# Altium footprint library Transformer.PcbLib: 20 footprints (part 2 of 2)
Each footprint in its own frame and in the unit in brackets; x right, y up, seen from the top. Pads: shape width x height; smd on the part's side, far side on the other; paste and mask are expansions set on the pad; w line width, h text height; cw(c..) or ccw(c..) is an arc to the next point about the centre after c.
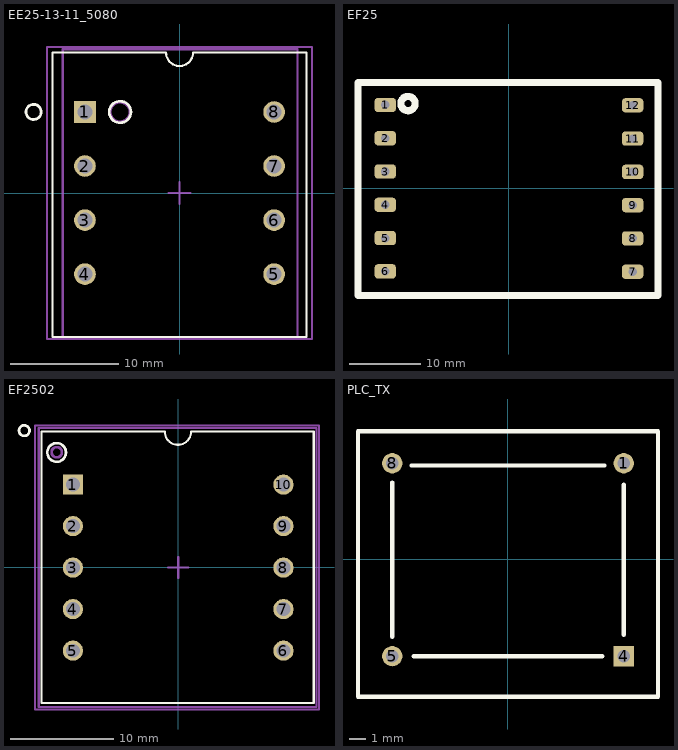
[diagram p1: the footprints below, top view; thin cyan lines are the x and y axes]

## EE25-13-11_5080 [mm] "THT, Body 26.00x23.50mm, 8Pins, Pitch 5.00mm"
height 29.5
pads (8):
  rect 2x2 hole 1.4: 1(-8.75,7.5)
  round 2 hole 1.4: 2(-8.75,2.5) 3(-8.75,-2.5) 4(-8.75,-7.5) 5(8.75,-7.5) 6(8.75,-2.5) 7(8.75,2.5) 8(8.75,7.5)
Top Overlay:
  circle w0.254: c-5.5,7.5 r1
  lines w0.2: -1.3,13 -11.75,13 -11.75,-13.3 11.75,-13.3 11.75,13 1.3,13 ; -1.25,13 ccw(c0,13) 1.25,13
  lines w0.254: -12.808,7.606 ccw(c-13.5,7.5) -12.8,7.5
Mechanical 13:
  circle w0.254: c-5.5,7.5 r0.906
  lines w0.2: -10.8,-13.3 10.9,-13.3 10.9,13.3 -10.8,13.3 -10.8,-13.3
Mechanical 15:
  lines w0.2: -1,0 1,0 ; 0,-1 0,1 ; -12.25,-13.5 -12.25,13.5 12.25,13.5 12.25,-13.5 -12.25,-13.5
  text ".Designator" at 0,0 h0.5
3D body "EE25-13-11_5080.step": height 29.23, standoff -3.5, extent -10.57,-13.003 10.57,13

## EF25 [mm]
pads (12):
  rrect50% 3x2 hole 1.2: 1(-17.272,11.615) 2(-17.272,6.965) 3(-17.272,2.315) 4(-17.272,-2.335) 5(-17.272,-6.985) 6(-17.272,-11.635) 7(17.272,-11.684) 8(17.272,-7.034) 9(17.272,-2.384) 10(17.272,2.266) 11(17.272,6.916) 12(17.272,11.566)
Top Overlay:
  circle w1: c-14.097,11.811 r1
  lines w1: -21.082,-14.986 20.828,-14.986 20.828,14.732 -21.082,14.732 -21.082,-14.986

## EF2502 [mm] "THT, Body 29.21x27.94mm, 10Pins, Pitch 5.08mm"
height 21.59
pads (10):
  rect 1.95x1.95 hole 1.32: 1(-10.16,8.001)
  round 1.95 hole 1.32: 2(-10.16,3.994) 3(-10.16,-0.013) 4(-10.16,-4.02) 5(-10.16,-8.026) 6(10.16,-8.026) 7(10.16,-4.02) 8(10.16,-0.013) 9(10.16,3.994) 10(10.16,8.001)
Top Overlay:
  circle w0.254: c-11.735,11.1 r0.901
  circle w0.254: c-14.859,13.208 r0.51
  lines w0.2: 1.24,13.111 cw(c-0.03,13.111) -1.3,13.111 -13.208,13.111 -13.208,-13.081 13.081,-13.081 13.081,13.111 1.3,13.111
Mechanical 13:
  circle w0.254: c-11.726,11.12 r0.5
  lines w0.2: -13.462,-13.462 -13.462,13.462 13.335,13.462 13.335,-13.462 -13.462,-13.462
Mechanical 15:
  lines w0.2: -1,0 1,0 ; 0,-1 0,1 ; -13.843,-13.716 13.589,-13.716 13.589,13.716 -13.843,13.716 -13.843,-13.716
  text ".Designator" at 0,0 h0.5

## PLC_TX [mm]
pads (4):
  round 1.2 hole 0.75: 1(6.883,5.69) 5(-6.833,-5.74) 8(-6.833,5.69)
  rect 1.2x1.2 hole 0.75: 4(6.883,-5.74)
Top Overlay:
  lines w0.254: -6.833,-4.597 -6.833,4.547 ; -5.69,5.563 5.74,5.563 ; -5.563,-5.74 5.613,-5.74 ; 6.883,-4.47 6.883,4.42 ; -8.865,-8.153 8.915,-8.153 8.915,7.595 -8.865,7.595 -8.865,-8.153